# EAGLE library part CON10A (library jump)
Standard 100mil Spacing Break-off 2x5 Header Strip
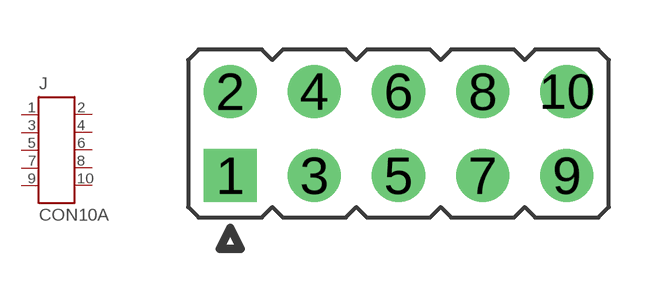
[diagram p2: symbol with the pads of 2X5; footprint 2X5]

Designator prefix J

## CON10A  [2X5]
1  P$1  pas
2  P$2  pas
3  P$3  pas
4  P$4  pas
5  P$5  pas
6  P$6  pas
7  P$7  pas
8  P$8  pas
9  P$9  pas
10  P$10  pas

## Footprint 2X5 (pad centres in mm)
drill 1.067 square: 1 -5.08,-1.27
drill 1.067 round: 2 -5.08,1.27; 3 -2.54,-1.27; 4 -2.54,1.27; 5 0,-1.27; 6 0,1.27; 7 2.54,-1.27; 8 2.54,1.27; 9 5.08,-1.27; 10 5.08,1.27